# Altium footprint library 691 309 510 0xx.PcbLib: 6 footprints
Each footprint in its own frame and in the unit in brackets; x right, y up, seen from the top. Pads: shape width x height; smd on the part's side, far side on the other; paste and mask are expansions set on the pad; w line width, h text height; cw(c..) or ccw(c..) is an arc to the next point about the centre after c.
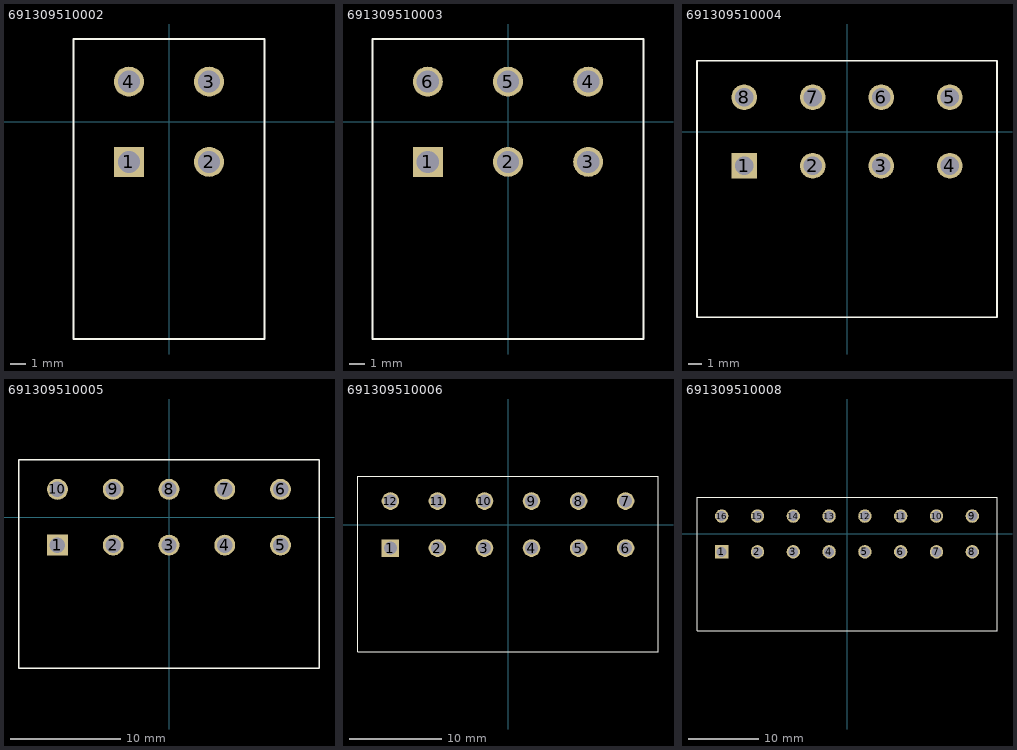
[diagram p0: the footprints below, top view; thin cyan lines are the x and y axes]

## 691309510002 [mm] "5.08 mm Reversed Gender Horizontal PCB Header - 02p"
height 8.6
pads (4):
  rect 1.9x1.9 hole 1.4: 1(-2.54,-2.54)
  round 1.9 hole 1.4: 2(2.54,-2.54) 3(2.54,2.54) 4(-2.54,2.54)
Top Overlay:
  lines w0.127: -6.04,-13.76 -6.04,5.24 6.04,5.24 6.04,-13.76 -6.04,-13.76
3D body: height 10.9, standoff -3.59, extent -6.04,-13.76 6.04,5.24

## 691309510003 [mm] "5.08 mm Reversed Gender Horizontal PCB Header - 03p"
height 8.6
pads (6):
  rect 1.9x1.9 hole 1.4: 1(-5.08,-2.54)
  round 1.9 hole 1.4: 2(0,-2.54) 3(5.08,-2.54) 4(5.08,2.54) 5(0,2.54) 6(-5.08,2.54)
Top Overlay:
  lines w0.127: -8.58,-13.76 -8.58,5.24 8.58,5.24 8.58,-13.76 -8.58,-13.76
3D body: height 10.9, standoff -3.59, extent -8.58,-13.76 8.58,5.24

## 691309510004 [mm] "5.08 mm Reversed Gender Horizontal PCB Header - 04p"
height 8.6
pads (8):
  rect 1.9x1.9 hole 1.4: 1(-7.62,-2.54)
  round 1.9 hole 1.4: 2(-2.54,-2.54) 3(2.54,-2.54) 4(7.62,-2.54) 5(7.62,2.54) 6(2.54,2.54) 7(-2.54,2.54) 8(-7.62,2.54)
Top Overlay:
  lines w0.127: -11.12,-13.76 11.12,-13.76 11.12,5.24 -11.12,5.24 -11.12,-13.76
3D body: height 10.9, standoff -3.59, extent -11.12,-13.76 11.12,5.24

## 691309510005 [mm] "5.08 mm Reversed Gender Horizontal PCB Header - 05p"
height 8.6
pads (10):
  rect 1.9x1.9 hole 1.4: 1(-10.16,-2.54)
  round 1.9 hole 1.4: 2(-5.08,-2.54) 3(0,-2.54) 4(5.08,-2.54) 5(10.16,-2.54) 6(10.16,2.54) 7(5.08,2.54) 8(0,2.54) 9(-5.08,2.54) 10(-10.16,2.54)
Top Overlay:
  lines w0.127: -13.66,-13.76 -13.66,5.24 13.66,5.24 13.66,-13.76 -13.66,-13.76
3D body: height 10.9, standoff -3.59, extent -13.66,-13.76 13.66,5.24

## 691309510006 [mm] "5.08 mm Reversed Gender Horizontal PCB Header - 06p"
height 8.6
pads (12):
  rect 1.9x1.9 hole 1.4: 1(-12.7,-2.54)
  round 1.9 hole 1.4: 2(-7.62,-2.54) 3(-2.54,-2.54) 4(2.54,-2.54) 5(7.62,-2.54) 6(12.7,-2.54) 7(12.7,2.54) 8(7.62,2.54) 9(2.54,2.54) 10(-2.54,2.54) 11(-7.62,2.54) 12(-12.7,2.54)
Top Overlay:
  lines w0.127: -16.2,-13.76 -16.2,5.24 16.2,5.24 16.2,-13.76 -16.2,-13.76
3D body: height 10.9, standoff -3.59, extent -16.2,-13.76 16.2,5.24

## 691309510008 [mm] "5.08 mm Reversed Gender Horizontal PCB Header - 08p"
height 8.6
pads (16):
  rect 1.9x1.9 hole 1.4: 1(-17.78,-2.54)
  round 1.9 hole 1.4: 2(-12.7,-2.54) 3(-7.62,-2.54) 4(-2.54,-2.54) 5(2.54,-2.54) 6(7.62,-2.54) 7(12.7,-2.54) 8(17.78,-2.54) 9(17.78,2.54) 10(12.7,2.54) 11(7.62,2.54) 12(2.54,2.54) 13(-2.54,2.54) 14(-7.62,2.54) 15(-12.7,2.54) 16(-17.78,2.54)
Top Overlay:
  lines w0.127: -21.28,-13.76 21.28,-13.76 21.28,5.24 -21.28,5.24 -21.28,-13.76
3D body: height 10.9, standoff -3.59, extent -21.28,-13.76 21.28,5.24